# Altium schematic symbol library VR.SchLib: 1 symbol
Pins are listed as number, name and electrical type; pins without a type are passive.

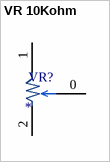
[diagram p0: symbol VR 10Kohm]

## VR 10Kohm
designator  VR?
footprint VR 10kohm
pins: 0, 1, 2